# Altium schematic symbol library ECS-2033-250-BN-TR3.SchLib: 1 symbol
Pins are listed as number, name and electrical type; pins without a type are passive.

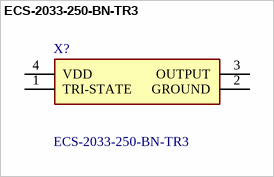
[diagram p0: symbol ECS-2033-250-BN-TR3]

## ECS-2033-250-BN-TR3
designator X?
Standard Clock Oscillators 25.00MHz, 3.3V, 2.5x2.0mm SMD OSC, +/-50PPM, -40C to +85C; Manufacturer_Name: ECS; Geometry.Height: 1mm; Manufacturer_Part_Number: ECS-2033-250-BN-TR3; Mouser Part Number: 520-ECS-2033250BNTR3; Mouser Price/Stock: https://www.mouser.co.uk/ProductDetail/ECS/ECS-2033-250-BN-TR3?qs=XAiT9M5g4x%252BKrERttTD0%2FA%3D%3D; Arrow Part Number: *; Arrow Price/Stock: *; Datasheet Link: https://www.mouser.sg/datasheet/2/122/ecs_2025_2033-2584417.pdf
footprint ECS2033250BNTR3
pins: 1 TRI-STATE, 2 GROUND, 3 OUTPUT, 4 VDD